# EAGLE library part MAX7000 (library Custom)
xc9536_pc44 XC9500 In-System Programmable CPLD Family Auto generated by make-symbol-device-package-bsdl.ulp Rev. 34 Source: xc9536_pc44.bsd
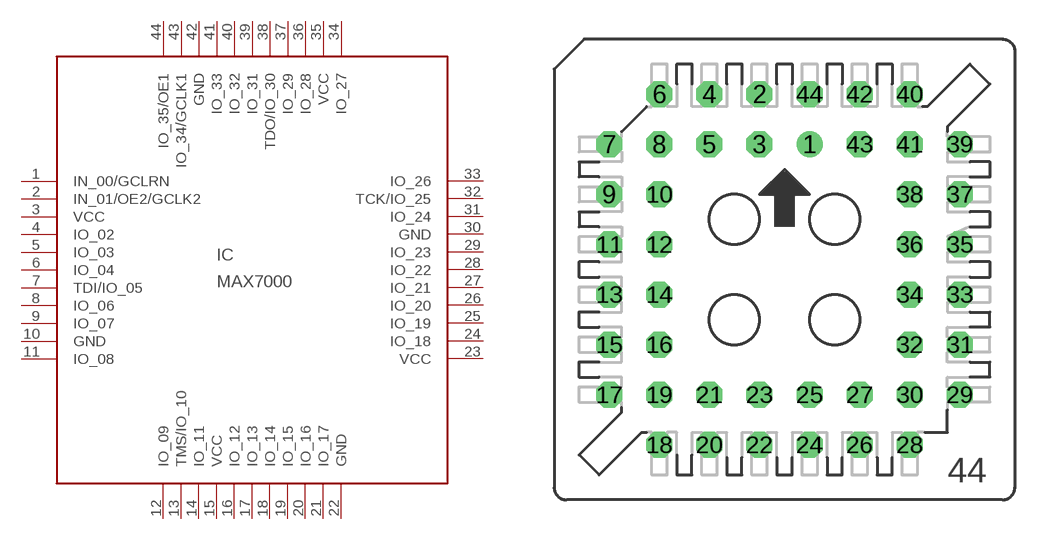
[diagram p29: symbol with the pads of S44; footprint S44]

Designator prefix IC

## MAX7000  [S44]
1  IN_00/GCLRN
2  IN_01/OE2/GCLK2
3  VCC  pwr
4  IO_02
5  IO_03
6  IO_04
7  TDI/IO_05
8  IO_06
9  IO_07
10  GND  pwr
11  IO_08
12  IO_09
13  TMS/IO_10
14  IO_11
15  VCC  pwr
16  IO_12
17  IO_13
18  IO_14
19  IO_15
20  IO_16
21  IO_17
22  GND  pwr
23  VCC  pwr
24  IO_18
25  IO_19
26  IO_20
27  IO_21
28  IO_22
29  IO_23
30  GND  pwr
31  IO_24
32  TCK/IO_25
33  IO_26
34  IO_27
35  VCC  pwr
36  IO_28
37  IO_29
38  TDO/IO_30
39  IO_31
40  IO_32
41  IO_33
42  GND  pwr
43  IO_34/GCLK1
44  IO_35/OE1

## Footprint S44 (pad centres in mm)
PLCC SOCKET
drill 0.813: 1 1.27,6.35
drill 0.813 octagon: 2 -1.27,8.89; 3 -1.27,6.35; 4 -3.81,8.89; 5 -3.81,6.35; 6 -6.35,8.89; 7 -8.89,6.35; 8 -6.35,6.35; 9 -8.89,3.81; 10 -6.35,3.81; 11 -8.89,1.27; 12 -6.35,1.27; 13 -8.89,-1.27; 14 -6.35,-1.27; 15 -8.89,-3.81; 16 -6.35,-3.81; 17 -8.89,-6.35; 18 -6.35,-8.89; 19 -6.35,-6.35; 20 -3.81,-8.89; 21 -3.81,-6.35; 22 -1.27,-8.89; 23 -1.27,-6.35; 24 1.27,-8.89; 25 1.27,-6.35; 26 3.81,-8.89; 27 3.81,-6.35; 28 6.35,-8.89; 29 8.89,-6.35; 30 6.35,-6.35; 31 8.89,-3.81; 32 6.35,-3.81; 33 8.89,-1.27; 34 6.35,-1.27; 35 8.89,1.27; 36 6.35,1.27; 37 8.89,3.81; 38 6.35,3.81; 39 8.89,6.35; 40 6.35,8.89; 41 6.35,6.35; 42 3.81,8.89; 43 3.81,6.35; 44 1.27,8.89